# Altium schematic symbol library DK TT.SCHLIB: 18 symbols
Pins are listed as number, name and electrical type; pins without a type are passive.

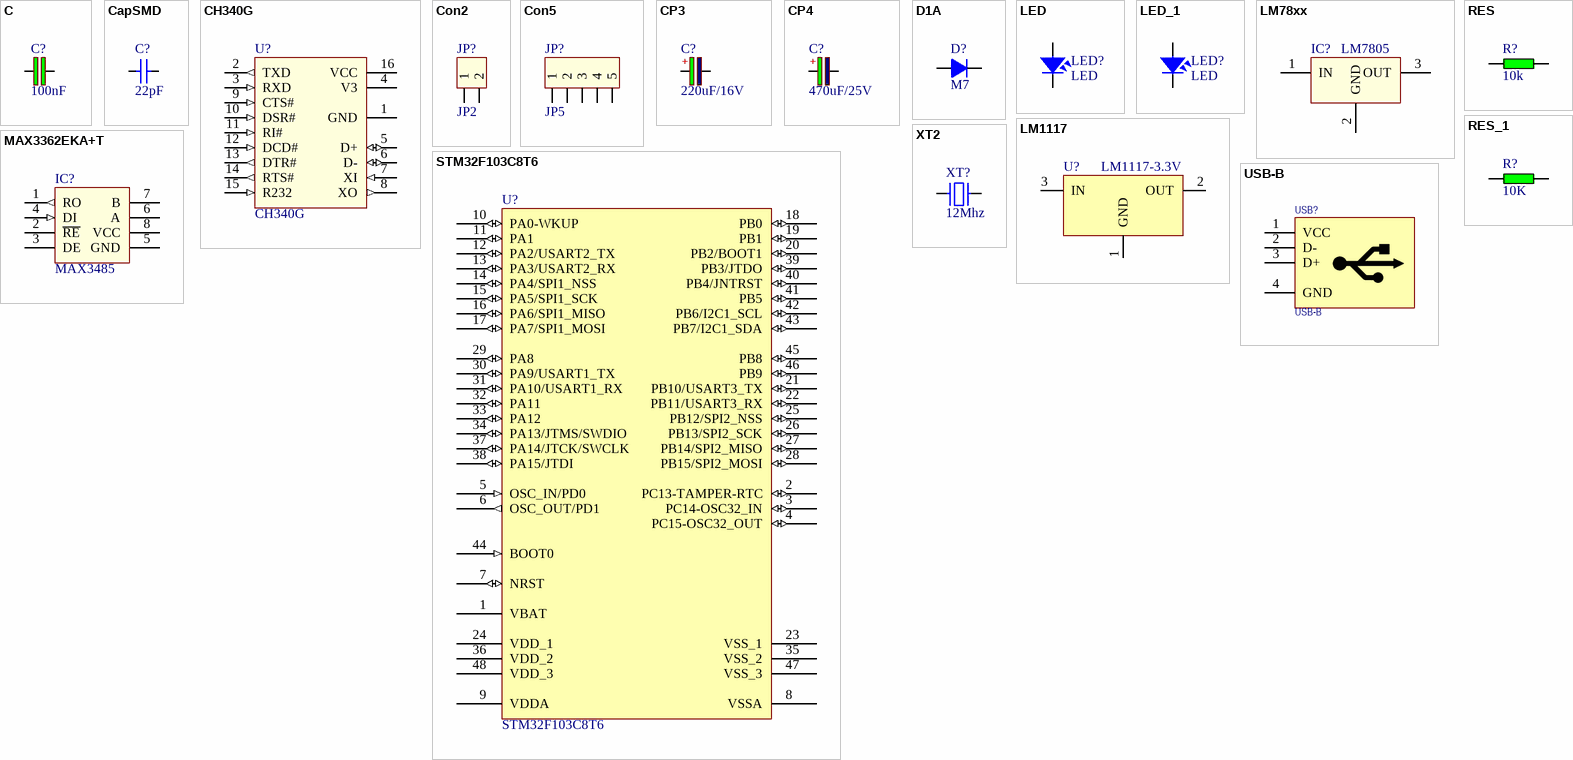
[diagram p0: symbols C to XT2]

## C
designator C?, comment 100nF
Cap SMD; Value: 103
footprint C-0805 (Compoment SMD 80x50mil)
pins: 1, 2

## CapSMD
designator C?, comment 22pF
Capacitor; Value: 33p; Published: 8-Jun-2000; LatestRevisionDate: 17-Jul-2002; LatestRevisionNote: Re-released for DXP Platform.; PackageReference: RAD-0.3; Publisher: Altium Limited
footprint CAP_0402
footprint CAP_0603
footprint CAP_0805
footprint CAP_1206
footprint CAP_3216
pins: 1, 2

## CH340G
designator U?
USB to UART Interface; Manufacturer: WCH; Category: IC UART Interface; Package: SOIC-16; Part number: CH340G; User_Description: USB to UART Interface
footprint SOIC-16
pins: 1 GND, 2 TXD (out), 3 RXD (in), 4 V3, 5 D+ (io), 6 D- (io), 7 XI (in), 8 XO (out), 9 CTS# (in), 10 DSR# (in), 11 RI# (in), 12 DCD# (in), 13 DTR# (out), 14 RTS# (out), 15 R232 (in), 16 VCC (power)

## Con2
designator JP?, comment JP2
Connector 2; Value: Connector 2
footprint KF2-5.08T (Header 2, 2 pin, hight 300mil, Pin to Pin 200, Colour Green)
pins: 1, 2

## Con5
designator JP?, comment JP5
Connector 5; Value: Connector 5
footprint JP5-D1T (5 pins, 1 row, straight, gold plating)
pins: 1, 2, 3, 4, 5

## CP3
designator C?, comment 220uF/16V
Cap 100uF/35V - 470uF/16V; Value: 100uF/35V/50V; Description 1: 1000uF/6,3V - 470uF/16V - 330uF - 25V; Description 2: 220uF/35V - 100uF/50V - 63V - 4,7uF/200V; Description 3: 22uF => 33uF100V - 3,3uF => 4,7uF/250V; Description 4: 2,2uF =>3,3uF/350 - 2,2uF/400V - 1uF/450V
footprint CA-ALU-5L (Polarized capacitors, Aluminum Electrolytic Capacitors, 2-Leads, Body 5x11x2x0.5)
pins: 1, 2
text: +

## CP4
designator C?, comment 470uF/25V
470uF/35V; Manufacturer: Würth Elektronik; Part number: 860020575014; Value: 470uF; User_Description: CAP ALUM 470UF 20% 35V RADIAL; Category: CAPACITOR
footprint CP_1000UF/25V_NAM - cao
pins: 1, 2
text: +

## D1A
designator D?, comment M7
Diode 1A; Value: 1N4007
footprint SMA11 (SMAJ5.0A/CA,SMAJ24CA...)
pins: 1 A, 2 K

## LED
designator LED?
LED Single colour Green and Red; Value: LED 3 ly Single Colour
footprint LED-3 (LED 2 PIN, 3ly Only colour)
pins: 1, 2

## LED_1
designator LED?, comment LED
LED Single colour Green and Red; Value: LED 3 ly Single Colour
footprint LED-3 (LED 2 PIN, 3ly Only colour)
footprint LED-5 GRe (LED 2 PIN, 5 ly , Only colour,pin to pin 100mil)
footprint LED-5TRED (LED 2 PIN, 5 ly , Only colour, pin to pin 110mil)
footprint LED-0805-Blue
footprint LED-0805-Green
footprint LED-0805-Orange
footprint LED-0805-Red
footprint LED-0805-Yellow
footprint LED-1206-Blue (Compoment SMD 120x60mil)
footprint LED-1206-Green
footprint LED-1206-Orange
footprint LED-1206-Red
footprint LED-1206-Yellow
pins: 1, 2

## LM78xx
designator IC?, comment LM7805
On ap +, from + 5 to + 24VDC; Value: LM7805
footprint TO-252 7805
footprint QTO-92 (TO-92)
pins: 1 IN, 2 GND, 3 OUT

## LM1117
designator U?, comment LM1117-3.3V
Creator: Nguyen Ba Bien; Website: http://group3i.net
footprint SOT223-4N (SOT223, 4-Leads, Body 6.5x3.5mm, Pitch 2.3mm, Lead Span 7mm, IPC Medium Density)
pins: 1 GND, 2 OUT, 3 IN

## MAX3362EKA+T
designator IC?, comment MAX3485
IC TRANSCEIVER HALF 1/1 SOT23-8; Manufacturer: Maxim Integrated; Part number: MAX3362EKA+T; Category: Interface - Drivers; Package: SOT-23-8; User_Description: IC TRANSCEIVER HALF 1/1 SOT23-8
footprint SOIC-8 (SOIC, 8-Leads, Body 5,0x4,0mm (max), Pitch 1,27mm, IPC Medium Density)
pins: 1 RO (out) "Receiver Output", 2 ~{RE} "Receiver Enable Output", 3 DE "Driver Enable Output", 4 DI (in) "Driver Input", 5 GND, 6 A "RI & NoneDO", 7 B "NoneDI", 8 VCC

## RES
designator R?, comment 10k
Resistor 1/4W; Value: R1/4W - 1K
footprint R-0805 (Compoment SMD 80x50mil)
pins: 1, 2

## RES_1
designator R?, comment 10K
Resistor 1/4W; Value: R1/4W - 1K
footprint R-0805 (Compoment SMD 80x50mil)
pins: 1, 2

## STM32F103C8T6
designator U?
footprint LQFP48_L
pins: 1 VBAT (power), 2 PC13-TAMPER-RTC (io), 3 PC14-OSC32_IN (io), 4 PC15-OSC32_OUT (io), 5 OSC_IN/PD0 (in), 6 OSC_OUT/PD1 (out), 7 NRST (io), 8 VSSA (power), 9 VDDA (power), 10 PA0-WKUP (io), 11 PA1 (io), 12 PA2/USART2_TX (io), 13 PA3/USART2_RX (io), 14 PA4/SPI1_NSS (io), 15 PA5/SPI1_SCK (io), 16 PA6/SPI1_MISO (io), 17 PA7/SPI1_MOSI (io), 18 PB0 (io), 19 PB1 (io), 20 PB2/BOOT1 (io), 21 PB10/USART3_TX (io), 22 PB11/USART3_RX (io), 23 VSS_1 (power), 24 VDD_1 (power), 25 PB12/SPI2_NSS (io), 26 PB13/SPI2_SCK (io), 27 PB14/SPI2_MISO (io), 28 PB15/SPI2_MOSI (io), 29 PA8 (io), 30 PA9/USART1_TX (io), 31 PA10/USART1_RX (io), 32 PA11 (io), 33 PA12 (io), 34 PA13/JTMS/SWDIO (io), 35 VSS_2 (power), 36 VDD_2 (power), 37 PA14/JTCK/SWCLK (io), 38 PA15/JTDI (io), 39 PB3/JTDO (io), 40 PB4/JNTRST (io), 41 PB5 (io), 42 PB6/I2C1_SCL (io), 43 PB7/I2C1_SDA (io), 44 BOOT0 (in), 45 PB8 (io), 46 PB9 (io), 47 VSS_3 (power), 48 VDD_3 (power)

## USB-B
designator USB?
CONN USB 2.0 RT ANGLE TYPE B; Manufacturer: Stewart Connector; Part number: SS-52300-001; Category: Connectors, Interconnects; Package: Through Hole; User_Description: CONN USB 2.0 RT ANGLE TYPE B
footprint USB-B
pins: 1 VCC, 2 D-, 3 D+, 4 GND

## XT2
designator XT?, comment 12Mhz
CRYSTAL 12.0000MHZ 18PF SMD; Manufacturer: IQD Frequency Products; Part number: LFXTAL036356REEL; Value: 12Mhz; Category: Crystals; Package: HC-49/US; User_Description: CRYSTAL 12.0000MHZ 18PF SMD
footprint XTAL-RU49/4
footprint XTAL-RU49/4
pins: 1, 2